# EAGLE library part LTC2941 (library chips_old)
I2C Battery Gas Gauge with External Sense Resistor
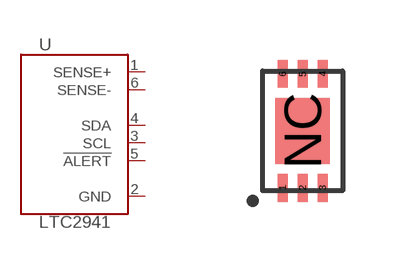
[diagram p74: symbol with the pads of DFN-6-2MMX3MM; footprint DFN-6-2MMX3MM]

Designator prefix U

## LTC2941 (DIGIKEY: LTC2941IDCB#TRMPBFCT-ND)  [DFN-6-2MMX3MM]
1  SENSE+  oc
2  GND  oc
3  SCL  oc
4  SDA  oc
5  !ALERT  oc
6  SENSE-  oc

## Footprint DFN-6-2MMX3MM (pad centres in mm)
smd 0.25 x 0.7: 1 -0.5,-1.425; 2 0,-1.425; 3 0.5,-1.425; 4 0.5,1.425; 5 0,1.425; 6 -0.5,1.425
smd 1.35 x 1.65: NC 0,0